# Altium footprint library ZYNQ_Motherboard_final.PcbLib: 31 footprints (part 2 of 2)
Each footprint in its own frame and in the unit in brackets; x right, y up, seen from the top. Pads: shape width x height; smd on the part's side, far side on the other; paste and mask are expansions set on the pad; w line width, h text height; cw(c..) or ccw(c..) is an arc to the next point about the centre after c.
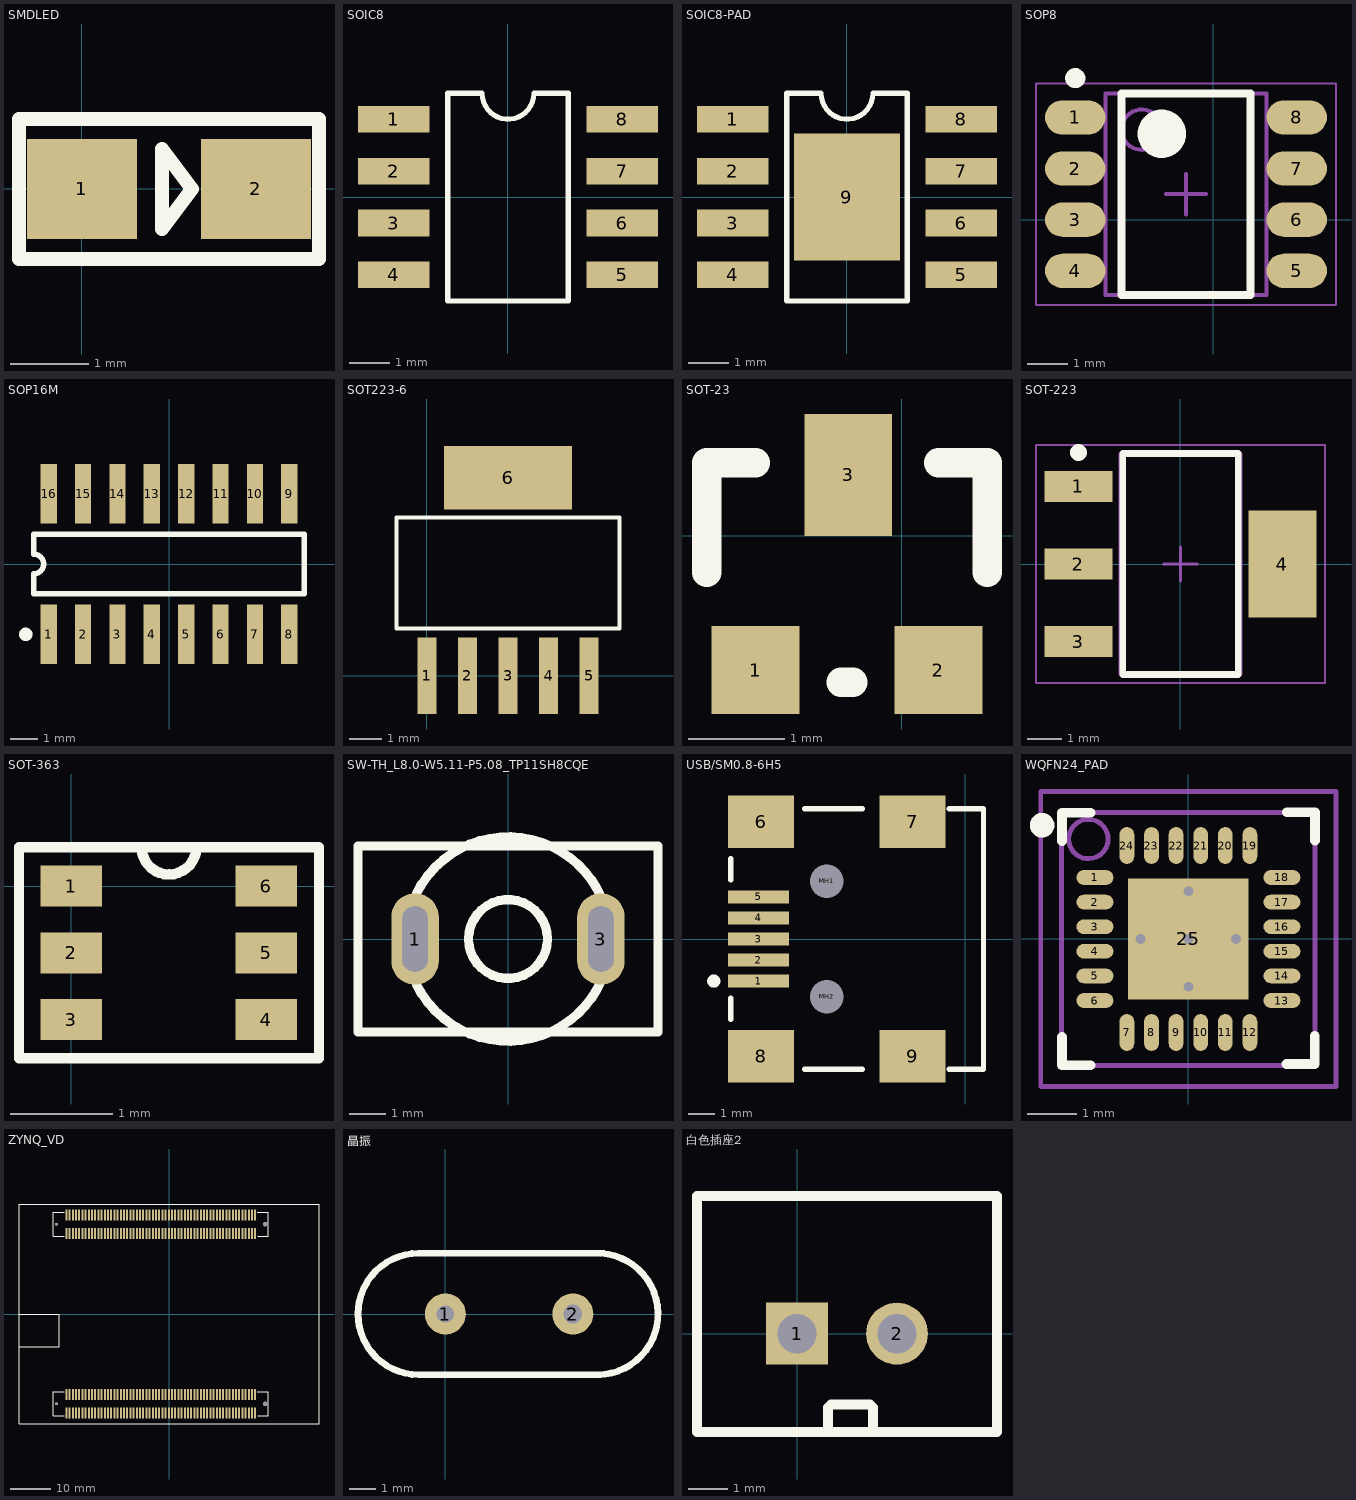
[diagram p1: the footprints below, top view; thin cyan lines are the x and y axes]

## SMDLED [mm]
pads (2):
  rect 1.4x1.27 smd: 1(0.001,-0.002) 2(2.211,-0.002)
Top Overlay:
  lines w0.178: 3.012,0.887 3.011,0.887 ; 3.011,0.887 3.011,-0.891 -0.799,-0.891 -0.799,-0.002 -0.799,0.887 3.011,0.887 ; 1.017,-0.51 1.017,0.506 1.398,-0.002 1.017,-0.51

## SOIC8 [mm]
pads (8):
  rect 1.75x0.65 smd: 1(-2.794,1.905) 2(-2.794,0.635) 3(-2.794,-0.635) 4(-2.794,-1.905) 5(2.794,-1.905) 6(2.794,-0.635) 7(2.794,0.635) 8(2.794,1.905)
Top Overlay:
  lines w0.127: -1.475,2.54 -1.475,-2.54 1.473,-2.54 ; -1.473,2.54 -0.635,2.54 ccw(c0,2.54) 0.635,2.54 1.473,2.54 ; 1.475,-2.54 1.475,2.54

## SOIC8-PAD [mm]
pads (9):
  rect 1.75x0.65 smd: 1(-2.794,1.905) 2(-2.794,0.635) 3(-2.794,-0.635) 4(-2.794,-1.905) 5(2.794,-1.905) 6(2.794,-0.635) 7(2.794,0.635) 8(2.794,1.905)
  rect 2.6x3.1 smd: 9(0,0)
Top Overlay:
  lines w0.127: -1.475,2.54 -1.475,-2.54 1.473,-2.54 ; -1.473,2.54 -0.635,2.54 ccw(c0,2.54) 0.635,2.54 1.473,2.54 ; 1.475,-2.54 1.475,2.54

## SOP8 [mm]
pads (8):
  oval 1.5x0.85 smd: 1(-3.429,2.54) 2(-3.429,1.27) 3(-3.429,0) 4(-3.429,-1.27) 5(2.071,-1.27) 6(2.071,0) 7(2.071,1.27) 8(2.071,2.54)
Top Overlay:
  circle w0.25: c-3.429,3.515 r0.125
  circle w0.6: c-1.279,2.135 r0.3
  lines w0.2: -2.279,-1.865 -2.279,3.135 0.921,3.135 0.921,-1.865 -2.279,-1.865
Mechanical 13:
  circle w0.1: c-1.779,2.235 r0.5
  lines w0.1: -2.679,-1.865 -2.679,3.135 1.321,3.135 1.321,-1.865 -2.679,-1.865
Mechanical 15:
  lines w0.05: -4.404,-2.115 -4.404,3.385 3.046,3.385 3.046,-2.115 -4.404,-2.115
  lines w0.1: -1.179,0.635 -0.179,0.635 ; -0.679,0.135 -0.679,1.135
3D body: height 2.65, standoff 0.25, extent -2.679,-1.865 1.321,3.135

## SOP16M [mm]
pads (16):
  rect 0.6x2.2 smd: 1(-4.445,-2.6) 2(-3.175,-2.6) 3(-1.905,-2.6) 4(-0.635,-2.6) 5(0.635,-2.6) 6(1.905,-2.6) 7(3.175,-2.6) 8(4.445,-2.6) 9(4.445,2.6) 10(3.175,2.6) 11(1.905,2.6) 12(0.635,2.6) 13(-0.635,2.6) 14(-1.905,2.6) 15(-3.175,2.6) 16(-4.445,2.6)
Top Overlay:
  circle w0.25: c-5.295,-2.6 r0.125
  lines w0.2: -5,-1.1 5,-1.1 5,1.1 -5,1.1 -5,0.367 cw(c-5,0) -5,-0.367 -5,-1.1

## SOT223-6 [mm]
height 1.2
pads (6):
  rect 0.6x2.4 smd: 1(0,0) 2(1.27,0) 3(2.54,0) 4(3.81,0) 5(5.08,0)
  rect 4x2 smd: 6(2.54,6.2)
Top Overlay:
  lines w0.127: -0.96,1.485 -0.96,4.955 6.04,4.955 6.04,1.485 5.518,1.485 -0.96,1.485

## SOT-23 [mil]
pads (3):
  rect 36x36 smd: 1(-60,-55) 2(15,-55)
  rect 36x50 smd: 3(-22,25)
Top Overlay:
  lines w12: -80,-15 -80,30 -60,30 ; -25,-60 -20,-60 ; 15,30 35,30 35,-15

## SOT-223 [mm] "SOT223, 4-Leads, Body 6.40x7.00mm (avg), Pitch 2.28mm, IPC Medium Density"
height 1.65
pads (4):
  rect 2x0.9 smd: 1(-3,2.28) 2(-3,0) 3(-3,-2.28)
  rect 2x3.15 smd: 4(3,0)
Top Overlay:
  circle w0.25: c-3,3.28 r0.125
  lines w0.2: -1.7,-3.25 1.7,-3.25 1.7,3.25 -1.7,3.25 -1.7,-3.25
Mechanical 13:
  lines w0.1: -1.775,-3.225 1.775,-3.225 1.775,3.225 -1.775,3.225 -1.775,-3.225
Mechanical 15:
  lines w0.05: -4.25,-3.5 4.25,-3.5 4.25,3.5 -4.25,3.5 -4.25,-3.5
  lines w0.1: -0.5,0 0.5,0 ; 0,-0.5 0,0.5
3D body: height 1.65, standoff 0.02, extent -1.775,-3.225 1.775,3.225

## SOT-363 [mm]
pads (6):
  rect 0.6x0.4 smd: 1(0,0) 2(0,-0.65) 3(0,-1.3) 4(1.9,-1.3) 5(1.9,-0.65) 6(1.9,0)
Top Overlay:
  lines w0.102: 0.686,0.368 ccw(c0.953,0.381) 1.219,0.37 ; -0.508,-1.676 2.413,-1.676 2.413,0.381 -0.508,0.381 -0.508,-1.676

## SW-TH_L8.0-W5.11-P5.08_TP11SH8CQE [mm]
pads (2):
  oval 1.3x2.5 hole 0.7 slot 1.8 at 90 deg: 1(-2.54,0) 3(2.54,0)
Top Overlay:
  circle w0.254: c0,0 r2.794
  circle w0.254: c0,0 r1.078
  lines w0.254: -4.1,-2.54 4.1,-2.54 4.1,2.54 -4.1,2.54 -4.1,-2.54

## USB/SM0.8-6H5 [mm]
pads (11):
  rect 2.3x0.5 smd: 1(-7.85,-1.6) 2(-7.85,-0.8) 3(-7.85,0) 4(-7.85,0.8) 5(-7.85,1.6)
  rect 2.5x2 smd: 6(-7.75,4.45) 7(-1.996,4.45) 8(-7.75,-4.45) 9(-1.996,-4.45)
  round 0.6 hole 1.27 unplated: MH1(-5.25,2.2) MH2(-5.25,-2.2)
Top Overlay:
  circle w0.25: c-9.55,-1.6 r0.125
  lines w0.2: -8.9,-3.05 -8.9,-2.25 ; -8.9,2.25 -8.9,3.05 ; -6.1,-4.95 -3.9,-4.95 ; -6.1,4.95 -3.9,4.95 ; -0.6,-4.95 0.7,-4.95 0.7,4.95 -0.6,4.95

## WQFN24_PAD [mm] "QFN, 36-Leads, Body 6x6mm, Pitch 0.5mm, ST Recommended"
height 1
pads (25):
  oval 0.75x0.3 smd: 1(-1.9,1.25) 2(-1.9,0.75) 3(-1.9,0.25) 4(-1.9,-0.25) 5(-1.9,-0.75) 6(-1.9,-1.25) 13(1.9,-1.25) 14(1.9,-0.75) 15(1.9,-0.25) 16(1.9,0.25) 17(1.9,0.75) 18(1.9,1.25)
  oval 0.3x0.75 smd: 7(-1.25,-1.9) 8(-0.75,-1.9) 9(-0.25,-1.9) 10(0.25,-1.9) 11(0.75,-1.9) 12(1.25,-1.9) 19(1.25,1.9) 20(0.75,1.9) 21(0.25,1.9) 22(-0.25,1.9) 23(-0.75,1.9) 24(-1.25,1.9)
  rect 2.45x2.45 smd: 25(0,0)
via 0,0 diameter 0.4 hole 0.2
via -0.97,0 diameter 0.4 hole 0.2
via 0,-0.97 diameter 0.4 hole 0.2
via 0,0.97 diameter 0.4 hole 0.2
via 0.97,0 diameter 0.4 hole 0.2
Top Overlay:
  circle w0.25: c-2.972,2.311 r0.125
  lines w0.2: -2.567,-1.992 -2.567,-2.567 -1.992,-2.567 ; -2.567,1.992 -2.567,2.567 -1.992,2.567 ; 1.992,-2.541 2.567,-2.541 2.567,-1.966 ; 2,2.575 2.575,2.575 2.575,2
Mechanical 13:
  circle w0.1: c-2.032,2.032 r0.4
  lines w0.1: -2.575,-2.575 -2.575,2.575 2.575,2.575 2.575,-2.575 -2.575,-2.575
Mechanical 15:
  lines w0.1: -0.5,0 0.5,0 ; 0,-0.5 0,0.5 ; -3,-3 -3,3 3,3 3,-3 -3,-3
3D body: height 1, standoff 0, extent -2.692,-2.692 2.692,2.667

## ZYNQ_VD [mm] "SE2625_VD"
pads (244):
  round 0.7 hole 0.7 unplated: " "(-28.25,-22.405) " "(-28.25,22.503)
  round 1.1 hole 1.1 unplated: " "(23.95,-22.405) " "(23.95,22.503)
  rect 0.5x2.7 smd: A1(-25.75,24.803) A2(-25.75,20.203) A3(-24.95,24.803) A4(-24.95,20.203) A5(-24.15,24.803) A6(-24.15,20.203) A7(-23.35,24.803) A8(-23.35,20.203) A9(-22.55,24.803) A10(-22.55,20.203) A11(-21.75,24.803) A12(-21.75,20.203) A13(-20.95,24.803) A14(-20.95,20.203) A15(-20.15,24.803) A16(-20.15,20.203) A17(-19.35,24.803) A18(-19.35,20.203) A19(-18.55,24.803) A20(-18.55,20.203) A21(-17.75,24.803) A22(-17.75,20.203) A23(-16.95,24.803) A24(-16.95,20.203) A25(-16.15,24.803) A26(-16.15,20.203) A27(-15.35,24.803) A28(-15.35,20.203) A29(-14.55,24.803) A30(-14.55,20.203) A31(-13.75,24.803) A32(-13.75,20.203) A33(-12.95,24.803) A34(-12.95,20.203) A35(-12.15,24.803) A36(-12.15,20.203) A37(-11.35,24.803) A38(-11.35,20.203) A39(-10.55,24.803) A40(-10.55,20.203) A41(-9.75,24.803) A42(-9.75,20.203) A43(-8.95,24.803) A44(-8.95,20.203) A45(-8.15,24.803) A46(-8.15,20.203) A47(-7.35,24.803) A48(-7.35,20.203) A49(-6.55,24.803) A50(-6.55,20.203) A51(-5.75,24.803) A52(-5.75,20.203) A53(-4.95,24.803) A54(-4.95,20.203) A55(-4.15,24.803) A56(-4.15,20.203) A57(-3.35,24.803) A58(-3.35,20.203) A59(-2.55,24.803) A60(-2.55,20.203) A61(-1.75,24.803) A62(-1.75,20.203) A63(-0.95,24.803) A64(-0.95,20.203) A65(-0.15,24.803) A66(-0.15,20.203) A67(0.65,24.803) A68(0.65,20.203) A69(1.45,24.803) A70(1.45,20.203) A71(2.25,24.803) A72(2.25,20.203) A73(3.05,24.803) A74(3.05,20.203) A75(3.85,24.803) A76(3.85,20.203) A77(4.65,24.803) A78(4.65,20.203) A79(5.45,24.803) A80(5.45,20.203) A81(6.25,24.803) A82(6.25,20.203) A83(7.05,24.803) A84(7.05,20.203) A85(7.85,24.803) A86(7.85,20.203) A87(8.65,24.803) A88(8.65,20.203) A89(9.45,24.803) A90(9.45,20.203) A91(10.25,24.803) A92(10.25,20.203) A93(11.05,24.803) A94(11.05,20.203) A95(11.85,24.803) A96(11.85,20.203) A97(12.65,24.803) A98(12.65,20.203) A99(13.45,24.803) A100(13.45,20.203) A101(14.25,24.803) A102(14.25,20.203) A103(15.05,24.803) A104(15.05,20.203) A105(15.85,24.803) A106(15.85,20.203) A107(16.65,24.803) A108(16.65,20.203) A109(17.45,24.803) A110(17.45,20.203) A111(18.25,24.803) A112(18.25,20.203) A113(19.05,24.803) A114(19.05,20.203) A115(19.85,24.803) A116(19.85,20.203) A117(20.65,24.803) A118(20.65,20.203) A119(21.45,24.803) A120(21.45,20.203) B1(-25.75,-20.105) B2(-25.75,-24.704) B3(-24.95,-20.105) B4(-24.95,-24.704) B5(-24.15,-20.105) B6(-24.15,-24.704) B7(-23.35,-20.105) B8(-23.35,-24.704) B9(-22.55,-20.105) B10(-22.55,-24.704) B11(-21.75,-20.105) B12(-21.75,-24.704) B13(-20.95,-20.105) B14(-20.95,-24.704) B15(-20.15,-20.105) B16(-20.15,-24.704) B17(-19.35,-20.105) B18(-19.35,-24.704) B19(-18.55,-20.105) B20(-18.55,-24.704) B21(-17.75,-20.105) B22(-17.75,-24.704) B23(-16.95,-20.105) B24(-16.95,-24.704) B25(-16.15,-20.105) B26(-16.15,-24.704) B27(-15.35,-20.105) B28(-15.35,-24.704) B29(-14.55,-20.105) B30(-14.55,-24.704) B31(-13.75,-20.105) B32(-13.75,-24.704) B33(-12.95,-20.105) B34(-12.95,-24.704) B35(-12.15,-20.105) B36(-12.15,-24.704) B37(-11.35,-20.105) B38(-11.35,-24.704) B39(-10.55,-20.105) B40(-10.55,-24.704) B41(-9.75,-20.105) B42(-9.75,-24.704) B43(-8.95,-20.105) B44(-8.95,-24.704) B45(-8.15,-20.105) B46(-8.15,-24.704) B47(-7.35,-20.105) B48(-7.35,-24.704) B49(-6.55,-20.105) B50(-6.55,-24.704) B51(-5.75,-20.105) B52(-5.75,-24.704) B53(-4.95,-20.105) B54(-4.95,-24.704) B55(-4.15,-20.105) B56(-4.15,-24.704) B57(-3.35,-20.105) B58(-3.35,-24.704) B59(-2.55,-20.105) B60(-2.55,-24.704) B61(-1.75,-20.105) B62(-1.75,-24.704) B63(-0.95,-20.105) B64(-0.95,-24.704) B65(-0.15,-20.105) B66(-0.15,-24.704) B67(0.65,-20.105) B68(0.65,-24.704) B69(1.45,-20.105) B70(1.45,-24.704) B71(2.25,-20.105) B72(2.25,-24.704) B73(3.05,-20.105) B74(3.05,-24.704) B75(3.85,-20.105) B76(3.85,-24.704) B77(4.65,-20.105) B78(4.65,-24.704) B79(5.45,-20.105) B80(5.45,-24.704) B81(6.25,-20.105) B82(6.25,-24.704) B83(7.05,-20.105) B84(7.05,-24.704) B85(7.85,-20.105) B86(7.85,-24.704) B87(8.65,-20.105) B88(8.65,-24.704) B89(9.45,-20.105) B90(9.45,-24.704) B91(10.25,-20.105) B92(10.25,-24.704) B93(11.05,-20.105) B94(11.05,-24.704) B95(11.85,-20.105) B96(11.85,-24.704) B97(12.65,-20.105) B98(12.65,-24.704) B99(13.45,-20.105) B100(13.45,-24.704) B101(14.25,-20.105) B102(14.25,-24.704) B103(15.05,-20.105) B104(15.05,-24.704) B105(15.85,-20.105) B106(15.85,-24.704) B107(16.65,-20.105) B108(16.65,-24.704) B109(17.45,-20.105) B110(17.45,-24.704) B111(18.25,-20.105) B112(18.25,-24.704) B113(19.05,-20.105) B114(19.05,-24.704) B115(19.85,-20.105) B116(19.85,-24.704) B117(20.65,-20.105) B118(20.65,-24.704) B119(21.45,-20.105) B120(21.45,-24.704)
Top Overlay:
  lines w0.152: -26.25,-25.405 -29.05,-25.405 -29.05,-19.405 -26.25,-19.405 ; -26.25,19.503 -29.05,19.503 -29.05,25.503 -26.25,25.503 ; 21.95,-19.405 24.75,-19.405 24.75,-25.405 22.05,-25.405 ; 21.95,25.503 24.75,25.503 24.75,19.503 22.05,19.503
  lines w0.203: -27.6,-8.15 -37.6,-8.129 -37.6,-0.029 -27.6,-0.029 -27.6,-8.129 ; -37.6,-27.45 37.4,-27.45 37.4,27.55 -37.6,27.55 -37.6,-27.45

## 晶振 [mm]
pads (2):
  round 1.54 hole 0.65: 1(0,0)
  round 1.54 hole 0.7: 2(4.8,0)
Top Overlay:
  lines w0.254: 5.741,-2.286 ccw(c5.715,0) 5.868,2.281 ; 5.826,-2.286 -1,-2.286 cw(c-1,0) -1,2.286 5.953,2.286
3D body: height 3, standoff 0.1, extent -3.522,-2.23 1.032,2.332
3D body: height 1, standoff 0.1, extent -3.774,-2.535 1.286,2.535
3D body: height 3, standoff 0.1, extent 3.311,-2.302 7.865,2.261
3D body: height 3, standoff 0.1, extent -1.245,-2.286 3.775,2.337
3D body: height 1, standoff 0.1, extent -1.254,-2.54 3.775,2.54
3D body: height 1, standoff 0.1, extent 3.068,-2.53 8.128,2.54

## 白色插座2 [mm]
pads (2):
  rect 1.575x1.575 hole 1: 1(0,0)
  round 1.575 hole 1: 2(2.54,0)
Top Overlay:
  lines w0.254: 0.787,-1.88 0.787,-2.362 0.787,-1.88 ; 0.787,-1.88 0.864,-1.803 ; 0.787,-1.88 0.864,-1.803 ; 0.864,-1.803 1.854,-1.803 ; 0.864,-1.803 1.854,-1.803 ; 1.854,-1.803 1.93,-1.88 ; 1.854,-1.803 1.93,-1.88 ; 1.93,-1.88 1.93,-2.388 1.93,-1.88 ; -2.54,-2.5 -2.54,3.5 5.08,3.5 5.08,-2.5 -2.54,-2.5